# Altium footprint library P2-Adapter_ver1.PcbLib: 42 footprints (part 1 of 3)
Each footprint in its own frame and in the unit in brackets; x right, y up, seen from the top. Pads: shape width x height; smd on the part's side, far side on the other; paste and mask are expansions set on the pad; w line width, h text height; cw(c..) or ccw(c..) is an arc to the next point about the centre after c.
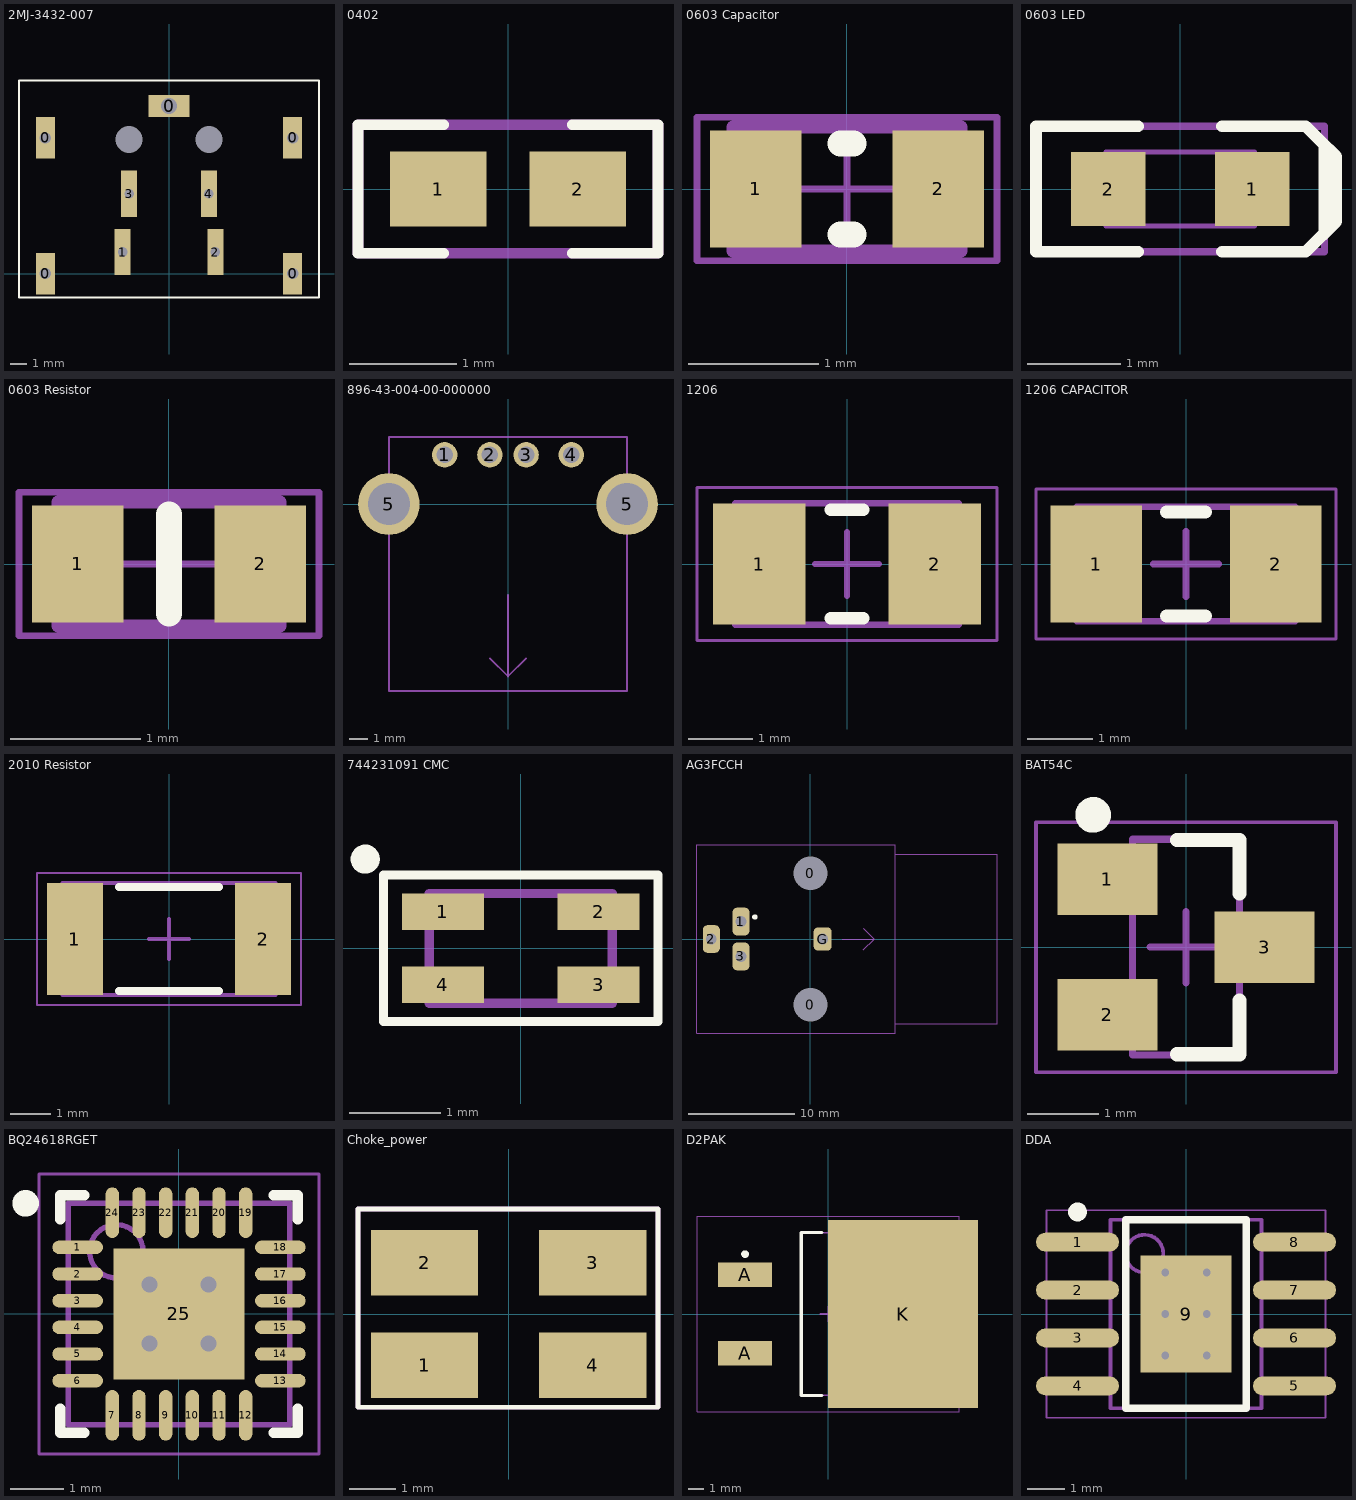
[diagram p0: the footprints below, top view; thin cyan lines are the x and y axes]

## 2MJ-3432-007 [mm]
pads (11):
  rect 1.2x2.6 hole 0.7 square: 0(-7.75,0) 0(-7.75,8.5) 0(7.75,0) 0(7.75,8.5)
  round 0 hole 1.7 unplated: 0(-2.5,8.4) 0(2.5,8.4)
  rect 2.6x1.4 hole 1 square: 0(0,10.5)
  rect 1x2.9 hole 0.6 square: 1(-2.9,1.35) 2(2.9,1.35) 3(-2.5,5) 4(2.5,5)
Top Overlay:
  lines w0.1: -9.4,-1.5 -9.4,12.1 9.4,12.1 9.4,-1.5 -9.4,-1.5
3D body "2MJ-3432-007_CUS.STP": height 15.5, standoff -3.5, extent -8.05,-1.5 7.95,15.9

## 0402 [mm] "Chip Capacitor; Body 1.0 x 0.5 mm (LxW typ)"
height 0.55
pads (2):
  rect 0.9x0.7 smd: 1(-0.65,0) 2(0.65,0)
Top Overlay:
  lines w0.1: -0.6,-0.6 -1.4,-0.6 -1.4,0.6 -0.6,0.6 ; 0.6,-0.6 1.4,-0.6 1.4,0.6 0.6,0.6
Mechanical 15:
  lines w0.1: -1.4,-0.6 1.4,-0.6 1.4,0.6 -1.4,0.6 -1.4,-0.6
3D body "User Library-0402 SMD Capacitor.step": height 0.2, standoff 0, extent -0.5,-0.3 0.5,0.3

## 0603 Capacitor [mm] "Chip Capacitor, Body 1.6x0.8mm, Height 0.55mm, IPC High Density"
height 0.55
pads (2):
  rect 0.7x0.9 smd: 1(-0.7,0) 2(0.7,0)
Top Overlay:
  lines w0.2: -0.05,-0.35 0.05,-0.35 ; -0.05,0.35 0.05,0.35
Mechanical 13:
  lines w0.1: -0.875,-0.475 -0.875,0.475 0.875,0.475 0.875,-0.475 -0.875,-0.475
Mechanical 15:
  lines w0.05: -0.475,0 0.475,0 ; 0,-0.475 0,0.475 ; -1.15,-0.55 -1.15,0.55 1.15,0.55 1.15,-0.55 -1.15,-0.55
3D body "cap_0603_lowprofile.step": height 0.6, standoff 0, extent -0.8,-0.4 0.8,0.4

## 0603 LED [mm]
height 0.8
pads (2):
  rect 0.8x0.8 smd: 1(0.775,0) 2(-0.775,0)
Top Overlay:
  lines w0.127: -0.45,-0.675 -1.55,-0.675 -1.55,0.675 -0.45,0.675 ; 0.45,-0.675 1.35,-0.675 1.55,-0.475 1.55,0.475 1.35,0.675 0.45,0.675 ; 1.5,0.525 1.675,0.35 1.675,-0.35 1.525,-0.5
Mechanical 13:
  lines w0.05: -0.6,-0.4 -0.6,0.399 0.6,0.4 0.6,-0.4 -0.6,-0.399 ; -0.505,-0.398 -0.505,0.398 ; -0.5,-0.4 -0.8,-0.4 -0.8,0.4 -0.5,0.4 ; 0.5,-0.4 0.8,-0.4 0.8,0.4 0.5,0.4 ; 0.505,-0.398 0.505,0.398 ; -0.599,-0.398 -0.599,0.398 0.599,0.398 0.599,-0.398 -0.599,-0.398
Mechanical 15:
  lines w0.076: -1.55,-0.675 -1.55,0.675 1.55,0.675 1.55,-0.675 -1.55,-0.675
3D body "LED 0603 APT1608 RED.STEP": height 0.75, standoff 0, extent -0.8,-0.4 0.8,0.4

## 0603 Resistor [mm] "Chip Resistor, Body 1.6x0.8mm, IPC High Density"
height 0.6
pads (2):
  rect 0.7x0.9 smd: 1(-0.7,0) 2(0.7,0)
Top Overlay:
  lines w0.2: 0,-0.381 0,0.381
Mechanical 13:
  lines w0.1: -0.85,-0.475 -0.85,0.475 0.85,0.475 0.85,-0.475 -0.85,-0.475
Mechanical 15:
  lines w0.05: -0.475,0 0.475,0 ; 0,-0.475 0,0.475 ; -1.15,-0.55 -1.15,0.55 1.15,0.55 1.15,-0.55 -1.15,-0.55
3D body "0603 SMD resistor.step": height 0.41, standoff 0.01, extent -0.8,-0.4 0.8,0.4

## 896-43-004-00-000000 [mm]
pads (6):
  round 1.4 hole 0.91: 1(-3.49,2.71) 2(-1,2.71) 3(1,2.71) 4(3.49,2.71)
  round 3.4 hole 2.31: 5(-6.565,0) 5(6.565,0)
Mechanical 15:
  lines w0.1: -1,-8.5 0,-9.5 ; 0,-5 0,-9.5 ; 1,-8.5 0,-9.5 ; -6.555,-10.3 -6.555,3.69 6.555,3.69 6.555,-10.3 -6.555,-10.3
3D body: height 6.99, standoff 0, extent -6.555,-10.3 6.555,3.69

## 1206 [mm] "1206"
height 1.6
pads (2):
  rect 1.45x1.9 smd: 1(-1.375,0) 2(1.375,0)
Top Overlay:
  lines w0.2: -0.25,-0.85 0.25,-0.85 ; -0.25,0.85 0.25,0.85
Mechanical 15:
  lines w0.05: -2.35,-1.2 2.35,-1.2 2.35,1.2 -2.35,1.2 -2.35,-1.2
  lines w0.1: -0.5,0 0.5,0 ; 0,-0.5 0,0.5 ; -1.75,-0.95 1.75,-0.95 1.75,0.95 -1.75,0.95 -1.75,-0.95
3D body: height 1.6, standoff 0, extent 1.2,-0.95 1.75,0.95
3D body: height 1.6, standoff 0, extent -1.75,-0.95 -1.2,0.95
3D body: height 1.6, standoff 0, extent -1.2,-0.95 1.2,0.95

## 1206 CAPACITOR [mm]
height 1.8
pads (2):
  rect 1.4x1.8 smd: 1(-1.375,0) 2(1.375,0)
Top Overlay:
  lines w0.2: -0.3,-0.8 0.3,-0.8 ; -0.3,0.8 0.3,0.8
Mechanical 15:
  lines w0.05: -2.3,-1.15 -2.3,1.15 2.3,1.15 2.3,-1.15 -2.3,-1.15
  lines w0.1: -0.5,0 0.5,0 ; 0,-0.5 0,0.5 ; -1.675,-0.875 -1.675,0.875 1.675,0.875 1.675,-0.875 -1.675,-0.875
3D body "1206 CAPACITOR.step": height 1.8, standoff 0, extent -1.675,-0.875 1.675,0.875

## 2010 Resistor [mm] "Chip Resistor, 2-Leads, Body 5,08x2,54mm, IPC Medium Density"
height 0.89
pads (2):
  rect 1.4x2.8 smd: 1(-2.35,0) 2(2.35,0)
Top Overlay:
  lines w0.2: -1.25,-1.3 1.25,-1.3 ; -1.25,1.3 1.25,1.3
Mechanical 15:
  lines w0.05: -3.3,-1.65 -3.3,1.65 3.3,1.65 3.3,-1.65 -3.3,-1.65
  lines w0.1: -0.5,0 0.5,0 ; 0,-0.5 0,0.5 ; -2.665,-1.395 -2.665,1.395 2.665,1.395 2.665,-1.395 -2.665,-1.395
3D body "2010 Resistor.step": height 0.89, standoff 0, extent -2.665,-1.395 2.665,1.395

## 744231091 CMC [mm] "CMC 370MA 2LN 90 OHM SMD"
height 1.2
pads (4):
  rect 0.9x0.4 smd: 1(-0.85,0.4) 2(0.85,0.4) 3(0.85,-0.4) 4(-0.85,-0.4)
Top Overlay:
  circle w0.16: c-1.7,0.975 r0.079
  lines w0.1: -1.5,-0.8 1.5,-0.8 1.5,0.8 -1.5,0.8 -1.5,-0.8
Mechanical 15:
  lines w0.1: -1,-0.6 -1,0.6 0,0.6 1,0.6 1,-0.6 0,-0.6 -1,-0.6
3D body "STEP-WE-CNSW-0805-rev1.stp": height 1.2, standoff 0, extent -1,-0.6 1,0.6

## AG3FCCH [mm]
pads (6):
  round 1.7 hole 3.2 unplated: 0(0,-6.2) 0(0,6.2)
  rrect50% 1.6x2.6 hole 1 square: 1(-6.55,1.65) 2(-9.35,0) 3(-6.55,-1.65)
  rrect50% 1.7x2.2 hole 1 square: G(1.15,0)
Top Overlay:
  circle w0.25: c-5.25,2.075 r0.125
Mechanical 15:
  lines w0.1: 3,0 6,0 ; 5,-1 6,0 ; 5,1 6,0 ; 8,-8 17.6,-8 17.6,8 8,8 ; -10.7,-8.9 -10.7,8.9 8,8.9 8,-8.9 -10.7,-8.9
3D body "Mini-XLR-female-AG3FCCH-amphenol-origin-fix.STEP": height 17.7, standoff -4.4, extent -11.75,-9.873 19.55,9.674

## BAT54C [mm] "BAT54C"
height 1.2
pads (3):
  rect 1.4x1 smd: 1(-1.1,0.95) 2(-1.1,-0.95) 3(1.1,0)
Top Overlay:
  circle w0.25: c-1.3,1.85 r0.125
  lines w0.2: -0.125,-1.5 0.75,-1.5 0.75,-0.75 ; -0.125,1.5 0.75,1.5 0.75,0.75
Mechanical 15:
  lines w0.05: -2.1,-1.75 -2.1,1.75 2.1,1.75 2.1,-1.75 -2.1,-1.75
  lines w0.1: -0.5,0 0.5,0 ; 0,-0.5 0,0.5 ; -0.75,-1.51 -0.75,1.51 0.75,1.51 0.75,-1.51 -0.75,-1.51
3D body "BAT54C.step": height 1.2, standoff 0, extent -1.5,-1.51 1.5,1.51

## BQ24618RGET [mm] "BQ24618RGET QFN, 24-Leads, Body 4,00x4,00mm, Pitch 0,50mm, Thermal Pad 2,45x2,45mm, IPC Medium Density"
height 1
pads (25):
  oval 0.95x0.25 smd: 1(-1.9,1.25) 2(-1.9,0.75) 3(-1.9,0.25) 4(-1.9,-0.25) 5(-1.9,-0.75) 6(-1.9,-1.25) 13(1.9,-1.25) 14(1.9,-0.75) 15(1.9,-0.25) 16(1.9,0.25) 17(1.9,0.75) 18(1.9,1.25)
  oval 0.25x0.95 smd: 7(-1.25,-1.9) 8(-0.75,-1.9) 9(-0.25,-1.9) 10(0.25,-1.9) 11(0.75,-1.9) 12(1.25,-1.9) 19(1.25,1.9) 20(0.75,1.9) 21(0.25,1.9) 22(-0.25,1.9) 23(-0.75,1.9) 24(-1.25,1.9)
  rect 2.45x2.45 smd: 25(0,0)
via -0.55,0.55 diameter 0.6 hole 0.3
via 0.55,0.55 diameter 0.6 hole 0.3
via -0.55,-0.55 diameter 0.6 hole 0.3
via 0.55,-0.55 diameter 0.6 hole 0.3
Top Overlay:
  circle w0.25: c-2.875,2.075 r0.125
  lines w0.2: -2.225,-1.775 -2.225,-2.225 -1.775,-2.225 ; -2.225,1.775 -2.225,2.225 -1.775,2.225 ; 1.775,-2.225 2.225,-2.225 2.225,-1.775 ; 1.775,2.225 2.225,2.225 2.225,1.775
Mechanical 15:
  circle w0.1: c-1.175,1.175 r0.5
  lines w0.05: -2.625,-2.625 -2.625,2.625 2.625,2.625 2.625,-2.625 -2.625,-2.625
  lines w0.1: -0.5,0 0.5,0 ; 0,-0.5 0,0.5 ; -2.075,-2.075 -2.075,2.075 2.075,2.075 2.075,-2.075 -2.075,-2.075
3D body "BQ24618RGET.step": height 1, standoff 0, extent -2.155,-2.155 2.155,2.155

## Choke_power [mm]
pads (4):
  rect 2.3x1.4 smd: 1(-1.8,-1.1) 2(-1.8,1.1) 3(1.8,1.1) 4(1.8,-1.1)
Top Overlay:
  lines w0.1: -3.225,-2 3,-2 3.2,-2 3.2,2.25 -3.225,2.25 -3.225,-2
Mechanical 13:
  lines w0.1: -3.225,-2 -3.225,2.25 3.2,2.25 3.2,-2 3,-2 -1.225,-2 -3.225,-2
3D body: height 2.35, standoff 0, extent -3.275,-2.05 3.25,2.3

## D2PAK [mm] "D2-PAK, 3-Pads, Body 7,77x8,64mm (max), IPC Medium Density"
height 4.6
pads (3):
  rect 3.5x1.6 smd: A(-5.4,-2.54) A(-5.4,2.54)
  rect 9.75x12.2 smd: K(4.875,0)
Top Overlay:
  circle w0.25: c-5.4,3.89 r0.125
  lines w0.2: -0.4,-5.3 -1.75,-5.3 -1.75,5.3 -0.4,5.3
Mechanical 15:
  lines w0.05: -8.525,-6.35 -8.525,6.35 8.525,6.35 8.525,-6.35 -8.525,-6.35
  lines w0.1: -0.5,0 0.5,0 ; 0,-0.5 0,0.5 ; -1.75,-5.275 -1.75,5.275 7.6,5.275 7.6,-5.275 -1.75,-5.275
3D body: height 4.6, standoff 0, extent -1.75,-5.275 7.6,5.275

## DDA [mm] "TPS54540B"
height 1.7
pads (9):
  oval 2.2x0.5 smd: 1(-2.875,1.905) 2(-2.875,0.635) 3(-2.875,-0.635) 4(-2.875,-1.905) 5(2.875,-1.905) 6(2.875,-0.635) 7(2.875,0.635) 8(2.875,1.905)
  rect 2.4x3.1 smd: 9(0,0)
via -0.55,1.1 diameter 0.5 hole 0.2
via 0.55,1.1 diameter 0.5 hole 0.2
via -0.55,0 diameter 0.5 hole 0.2
via 0.55,0 diameter 0.5 hole 0.2
via -0.55,-1.1 diameter 0.5 hole 0.2
via 0.55,-1.1 diameter 0.5 hole 0.2
Top Overlay:
  circle w0.25: c-2.875,2.705 r0.125
  lines w0.2: -1.6,-2.5 -1.6,2.5 1.6,2.5 1.6,-2.5 -1.6,-2.5
Mechanical 15:
  circle w0.1: c-1.1,1.6 r0.5
  lines w0.05: -3.7,-2.75 -3.7,2.75 3.7,2.75 3.7,-2.75 -3.7,-2.75
  lines w0.1: -0.5,0 0.5,0 ; 0,-0.5 0,0.5 ; -2,-2.5 -2,2.5 2,2.5 2,-2.5 -2,-2.5
3D body: height 1.7, standoff 0.15, extent -2,-2.5 2,2.5